# Altium integrated library Transistors.IntLib: 3 symbols
Pins are listed as number, name and electrical type; pins without a type are passive.

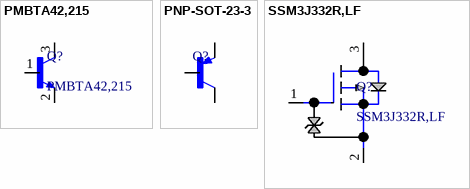
[diagram p0: symbols PMBTA42,215 to SSM3J332R,LF]

## PMBTA42,215
designator Q?
PMBTA42 Series 300 V 100 mA 250 mW SMT NPN High-Voltage Transistor - SOT-23-3; Manufacturer: *; Manufacturer Part Number: *; Vca voltage range: *; Parameter 1: *
footprint SOT23 (TO-236AB)
pins: 1 B, 2 E, 3 C

## PNP-SOT-23-3
designator Q?, comment MMBT4403  (value not drawn)
Bipolar _BJT_ Transistor PNP 40V 600mA 200MHz 350mW Surface Mount SOT-23-3; Manufacturer: ON Semiconductor; Manufacturer Part Number: MMBT4403; Value: *; Price: None; Package: SOT-23-3 (TO-236); Availability: Unavailable; Vendor: *; Vendor Part Number: *
footprint SOT-23-3 (TO-236)
pins: B, C, E

## SSM3J332R,LF
designator Q?
P-Channel 30 V 6A (Ta) 1W (Ta) Surface Mount SOT-23F; Manufacturer: Toshiba; Drain-Source Voltage: -30V; Source Current: -6.0A; Manufacturer Part Number: SSM3J332R,LF; Package: SOT-23F
footprint SOT-23F
footprint SOT-23F
pins: 1, 2, 3